# EAGLE library part ACS712 (library wolfi)
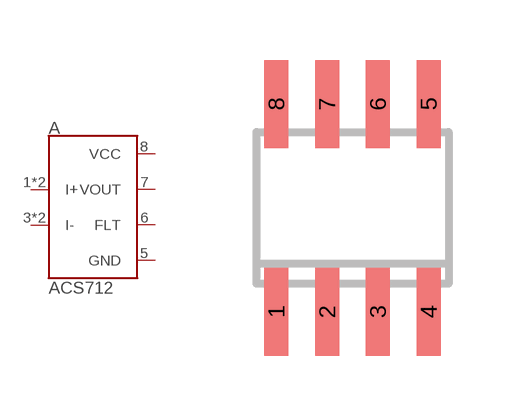
[diagram p31: symbol with the pads of SO08; footprint SO08]

Designator prefix A

## ACS712LC  [SO08]
1  I+  pas
2  I+  pas
3  I-  pas
4  I-  pas
5  GND  pwr
6  FLT  pas
7  VOUT  out
8  VCC  pwr

## Footprint SO08 (pad centres in mm)
Small Outline Package 8 NS Package M08A
smd 0.6 x 2.2: 1 -1.905,-2.6; 2 -0.635,-2.6; 3 0.635,-2.6; 4 1.905,-2.6; 5 1.905,2.6; 6 0.635,2.6; 7 -0.635,2.6; 8 -1.905,2.6